# EAGLE library part CONN_03X2_AVRISP (library fab)
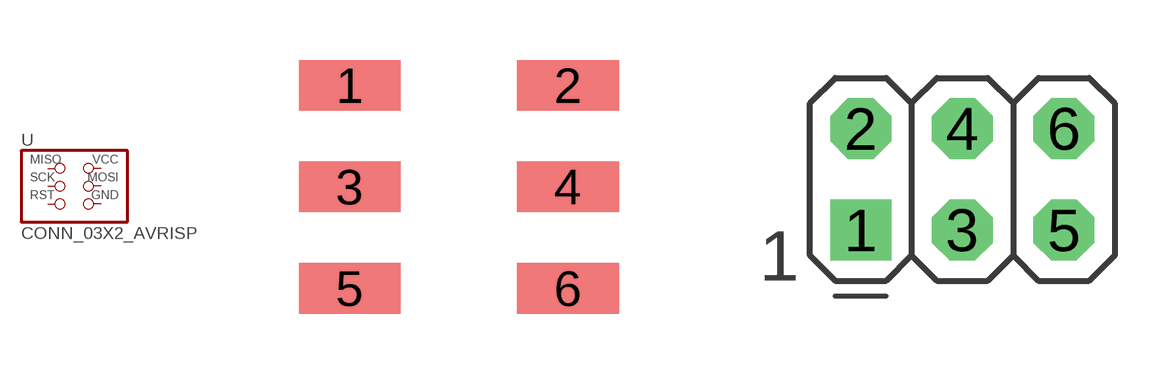
[diagram p1: symbol with the pads of 2X03SMD; footprints 2X03SMD, 2X03]

Designator prefix -

## CONN_03X2_AVRISPSMD  [2X03SMD]
1  MISO  pas
2  VCC  pas
3  SCK  pas
4  MOSI  pas
5  RST  pas
6  GND  pas

## CONN_03X2_AVRISP  [2X03]
Pads as for 2X03SMD

## Footprint 2X03SMD (pad centres in mm)
smd 2.54 x 1.27: 1 -2.54,2.54; 2 2.92,2.54; 3 -2.54,0; 4 2.92,0; 5 -2.54,-2.54; 6 2.92,-2.54

## Footprint 2X03 (pad centres in mm)
PIN HEADER
drill 1.016 square: 1 -2.54,-1.27
drill 1.016 octagon: 2 -2.54,1.27; 3 0,-1.27; 4 0,1.27; 5 2.54,-1.27; 6 2.54,1.27